# EAGLE library part LM73 (library national_semiconductor)
Digital Temperature Sensor with 2-Wire Interface Manufacturer: http://cache.national.com Source: http://cache.national.com/ds/LM/LM73.pdf
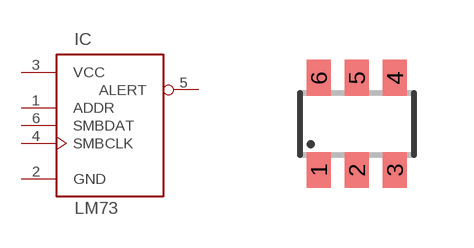
[diagram p0: symbol with the pads of SOT23-6; footprint SOT23-6]

Designator prefix IC

## LM73  [SOT23-6]
1  ADDR  in
2  GND  pwr
3  VCC  pwr
4  SMBCLK  in
5  ALERT  oc
6  SMBDAT

## Footprint SOT23-6 (pad centres in mm)
Small Outline Transistor 6 lead
smd 0.6 x 0.9: 1 -0.95,-1.15; 2 0,-1.15; 3 0.95,-1.15; 4 0.95,1.15; 5 0,1.15; 6 -0.95,1.15